# EAGLE library part 768203*G (library cts)
50V Maxumum
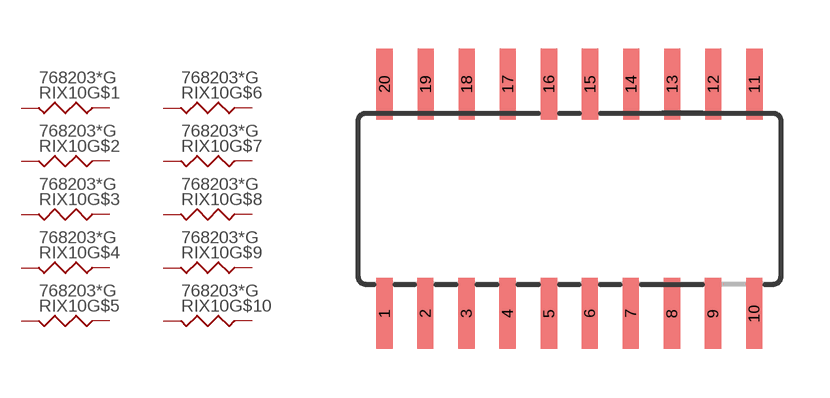
[diagram p5: symbol with the pads of SOP20; footprint SOP20]

Designator prefix RIX10; gates G$1=RESISTOR G$2=RESISTOR G$3=RESISTOR G$4=RESISTOR G$5=RESISTOR G$6=RESISTOR G$7=RESISTOR G$8=RESISTOR G$9=RESISTOR G$10=RESISTOR

## 768203G, 768203000G, 768203100G, 768203101G, 768203102G, 768203103G, 768203104G, 768203105G, 768203111G, 768203112G, 768203113G, 768203114G, 768203120G, 768203121G, 768203123G, 768203124G, 768203150G, 768203151G, 768203152G, 768203153G, 768203154G, 768203180G, 768203181G, 768203182G, 768203183G, 768203184G, 768203201G, 768203202G, 768203203G, 768203204G, 768203220G, 768203221G, 768203222G, 768203223G, 768203224G, 768203270G, 768203271G, 768203272G, 768203273G, 768203274G, 768203330G, 768203331G, 768203332G, 768203333G, 768203334G, 768203390G, 768203391G, 768203392G, 768203393G, 768203394G, 768203470G, 768203471G, 768203472G, 768203473G, 768203474G, 768203510G, 768203511G, 768203512G, 768203560G, 768203561G, 768203562G, 768203563G, 768203564G, 768203680G, 768203681G, 768203682G, 768203683G, 768203684G, 768203820G, 768203821G, 768203822G, 768203823G, 768203824G  [SOP20]
1  G$1:1  pas
2  G$2:1  pas
3  G$3:1  pas
4  G$4:1  pas
5  G$5:1  pas
6  G$6:1  pas
7  G$7:1  pas
8  G$8:1  pas
9  G$9:1  pas
10  G$10:1  pas
11  G$10:2  pas
12  G$9:2  pas
13  G$8:2  pas
14  G$7:2  pas
15  G$6:2  pas
16  G$5:2  pas
17  G$4:2  pas
18  G$3:2  pas
19  G$2:2  pas
20  G$1:2  pas

## Footprint SOP20 (pad centres in mm)
smd 0.5 x 2.2: 1 0,-0.375; 2 1.26,-0.375; 3 2.53,-0.375; 4 3.8,-0.375; 5 5.08,-0.375; 6 6.34,-0.375; 7 7.61,-0.375; 8 8.88,-0.375; 9 10.15,-0.375; 10 11.42,-0.375; 11 11.43,6.725; 12 10.16,6.725; 13 8.89,6.725; 14 7.62,6.725; 15 6.35,6.725; 16 5.08,6.725; 17 3.81,6.725; 18 2.54,6.725; 19 1.27,6.725; 20 0,6.725